# EAGLE library part 55917-16 (library con-molex-minifit)
DIP connector 2mm 16 way
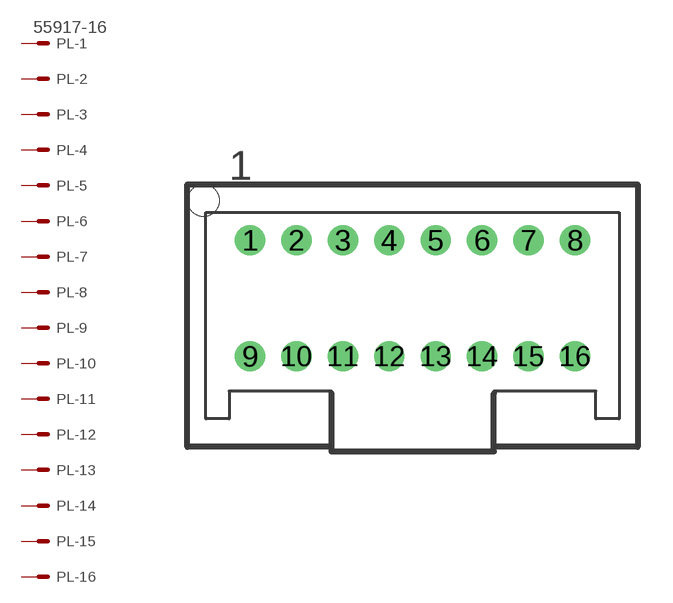
[diagram p14: symbol with the pads of 55917-16; footprint 55917-16]

Designator prefix PL; gates -1=MV -2=M -3=M -4=M -5=M -6=M -7=M -8=M -9=M -10=M -11=M -12=M -13=M -14=M -15=M -16=M

## 55917-16  [55917-16]
1  -1:S  pas
2  -2:S  pas
3  -3:S  pas
4  -4:S  pas
5  -5:S  pas
6  -6:S  pas
7  -7:S  pas
8  -8:S  pas
9  -9:S  pas
10  -10:S  pas
11  -11:S  pas
12  -12:S  pas
13  -13:S  pas
14  -14:S  pas
15  -15:S  pas
16  -16:S  pas

## Footprint 55917-16 (pad centres in mm)
DIP connector 2mm 16 way
drill 0.8 round: 1 -7,2.5; 2 -5,2.5; 3 -3,2.5; 4 -1,2.5; 5 1,2.5; 6 3,2.5; 7 5,2.5; 8 7,2.5; 9 -7,-2.5; 10 -5,-2.5; 11 -3,-2.5; 12 -1,-2.5; 13 1,-2.5; 14 3,-2.5; 15 5,-2.5; 16 7,-2.5
hole 1.35 at -9,4.2